# Altium schematic symbol library IC. Amplifier.SchLib: 15 symbols
Pins are listed as number, name and electrical type; pins without a type are passive.

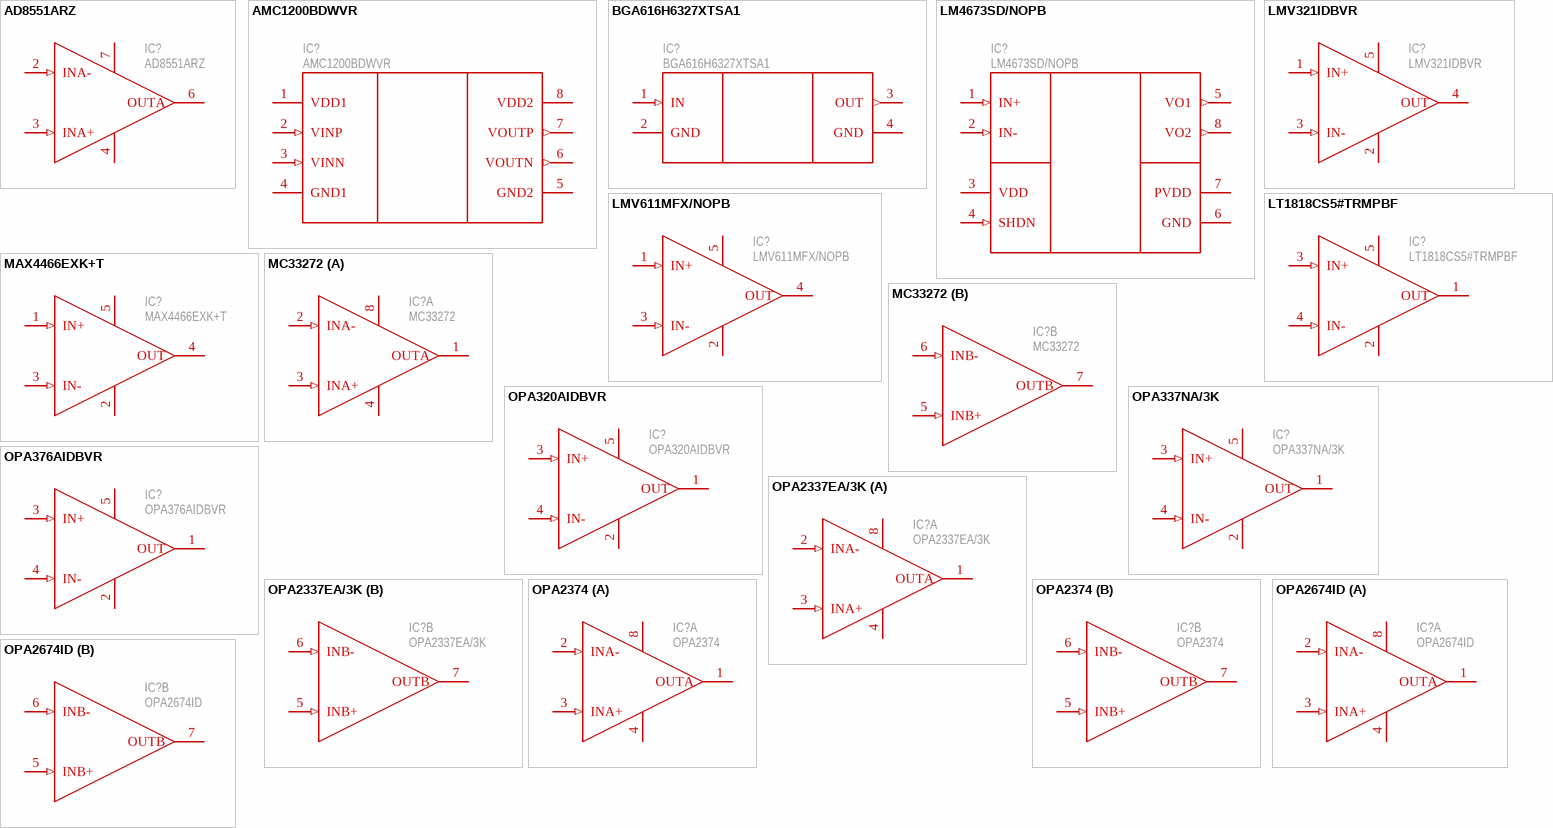
[diagram p0: symbols AD8551ARZ to OPA2674ID]

## AD8551ARZ
designator IC?  PartNumber: AD8551ARZ
OP amplifier; Manufacturer: Texas Instruments; ValueManufacturerPartNumber: IC op amplifier, Rail-to-Rail, 3 MHz, 2.7...5.5V, -40...+125°C, SOT23-5; Supply: 2.7...5.5V; OutputType: Rail-to-Rail; GainBandwidth: 3 MHz; HelpURL: https://www.digikey.com/product-detail/en/texas-instruments/OPA2337EA-3K/296-26252-1-ND/2254915; Package: SOT23-5; ComponentType: IC op amplifier; Temperature: -40...+125°C
footprint 8-SOIC (pitch 1.27 mm)
pins: 2 INA- (in), 3 INA+ (in), 4 V- (power), 6 OUTA (power), 7 V+ (power)

## AMC1200BDWVR
designator IC?  PartNumber: AMC1200BDWVR
Isolator amplifier; Manufacturer: Texas Instruments; ValueManufacturerPartNumber: IC isolator amplifier, Differential, 100 kHz, 2.7...5.5V, -40...+105°C, 8-SOIC; Supply: 2.7...5.5V; OutputType: Differential; GainBandwidth: 100 kHz; HelpURL: https://www.digikey.com/product-detail/en/texas-instruments/AMC1200BDWVR/296-39898-1-ND/5177775; Package: 8-SOIC; ComponentType: IC isolator amplifier; Temperature: -40...+105°C
footprint IC: AMC1200 (pitch 1.27 mm, isolator)
pins: 1 VDD1 (power), 2 VINP (in), 3 VINN (in), 4 GND1 (power), 5 GND2 (power), 6 VOUTN (out), 7 VOUTP (out), 8 VDD2 (power)

## BGA616H6327XTSA1
designator IC?  PartNumber: BGA616H6327XTSA1
RF amplifier; Manufacturer: Texas Instruments; ValueManufacturerPartNumber: IC RF amplifier, 2.7 GHz, 19dB, -40...+125°C, SOT23-5; Gain: 19dB; Frequency: 2.7 GHz; HelpURL: https://www.digikey.com/product-detail/en/infineon-technologies/BGA616H6327XTSA1/BGA616H6327XTSA1CT-ND/2410159; Package: SOT23-5; ComponentType: IC RF amplifier; Temperature: -40...+125°C
footprint SOT343
pins: 1 IN (in), 2 GND, 3 OUT (out), 4 GND

## LM4673SD/NOPB
designator IC?  PartNumber: LM4673SD/NOPB
Audio amplifier; Manufacturer: Texas Instruments; ValueManufacturerPartNumber: IC audio amplifier, Class D, 2.65W, 2.4...5.5V, -40...+85°C, 8-WSON; Supply: 2.4...5.5V; OutputType: Class D; OutputPower: 2.65W; HelpURL: https://www.digikey.com/product-detail/en/texas-instruments/LM4673SD-NOPB/LM4673SD-NOPBCT-ND/1207555; Package: 8-WSON; ComponentType: IC audio amplifier; Temperature: -40...+85°C
footprint 8-WSON (3x3) (3x3 mm, pitch 0.5 mm, power pad)
pins: 1 IN+ (in), 2 IN- (in), 3 VDD, 4 SHDN (in), 5 VO1 (out), 6 GND, 7 PVDD, 8 VO2 (out)

## LMV321IDBVR
designator IC?  PartNumber: LMV321IDBVR
OP amplifier; Manufacturer: Texas Instruments; ValueManufacturerPartNumber: IC op amplifier, Rail-to-Rail, 1 MHz, 2.7...5.5V, -40...+125°C, SOT23-5; Supply: 2.7...5.5V; OutputType: Rail-to-Rail; GainBandwidth: 1 MHz; HelpURL: https://www.digikey.com/product-detail/en/texas-instruments/LMV321IDBVR/296-9567-1-ND/379849; Package: SOT23-5; ComponentType: IC op amplifier; Temperature: -40...+125°C
footprint SOT23-5 (pitch 0.95 mm)
pins: 1 IN+ (in), 2 V- (power), 3 IN- (in), 4 OUT (power), 5 V+ (power)

## LMV611MFX/NOPB
designator IC?  PartNumber: LMV611MFX/NOPB
OP amplifier; Manufacturer: Texas Instruments; ValueManufacturerPartNumber: IC op amplifier, Rail-to-Rail, 1.5 MHz, 1.8...5.5V, -40...+125°C, SOT23-5; Supply: 1.8...5.5V; OutputType: Rail-to-Rail; GainBandwidth: 1.5 MHz; HelpURL: https://www.digikey.com/product-detail/en/texas-instruments/LMV611MFX-NOPB/296-47209-1-ND/7688219; Package: SOT23-5; ComponentType: IC op amplifier; Temperature: -40...+125°C
footprint SOT23-5 (pitch 0.95 mm)
pins: 1 IN+ (in), 2 V- (power), 3 IN- (in), 4 OUT (power), 5 V+ (power)

## LT1818CS5#TRMPBF
designator IC?  PartNumber: LT1818CS5#TRMPBF
OP amplifier; Manufacturer: Linear Technology; ValueManufacturerPartNumber: IC op amplifier, 2500V/µs, 400 MHz, 2.5...12.6V, -40...+125°C, SOT23-5; Supply: 2.5...12.6V; OutputType: 2500V/µs; GainBandwidth: 400 MHz; HelpURL: https://www.digikey.com/product-detail/en/linear-technology-analog-devices/LT1818CS5-TRMPBF/LT1818CS5-TRMPBFCT-ND/1754244; Package: SOT23-5; ComponentType: IC op amplifier; Temperature: -40...+125°C
footprint SOT23-5 (pitch 0.95 mm)
pins: 1 OUT (power), 2 V- (power), 3 IN+ (in), 4 IN- (in), 5 V+ (power)

## MAX4466EXK+T
designator IC?  PartNumber: MAX4466EXK+T
Microphone amplifier; Manufacturer: Maxim Integrated; ValueManufacturerPartNumber: IC microphone amplifier, Class AB, 20dB, 2.4...5.5V, -40...+85°C, SC70-5; Supply: 2.4...5.5V; OutputType: Class AB; Gain: 20dB; HelpURL: https://www.digikey.com/product-detail/en/maxim-integrated/MAX4466EXK-T/MAX4466EXK-CT-ND/5405773; Package: SC70-5; ComponentType: IC microphone amplifier; Temperature: -40...+85°C
footprint SC70-5 (pitch 0.95 mm)
pins: 1 IN+ (in), 2 V- (power), 3 IN- (in), 4 OUT (power), 5 V+ (power)

## MC33272
designator IC?  PartNumber: MC33272
OP amplifier; Manufacturer: Texas Instruments; ValueManufacturerPartNumber: IC op amplifier, Rail-to-Rail, 3 MHz, 2.7...5.5V, -40...+125°C, SOT23-5; Supply: 2.7...5.5V; OutputType: Rail-to-Rail; GainBandwidth: 3 MHz; HelpURL: https://www.digikey.com/product-detail/en/texas-instruments/OPA2337EA-3K/296-26252-1-ND/2254915; Package: SOT23-5; ComponentType: IC op amplifier; Temperature: -40...+125°C
footprint 8-SOIC (pitch 1.27 mm)
part A pins: 1 OUTA (power), 2 INA- (in), 3 INA+ (in), 4 V- (power), 8 V+ (power)
part B pins: 5 INB+ (in), 6 INB- (in), 7 OUTB (power)

## OPA320AIDBVR
designator IC?  PartNumber: OPA320AIDBVR
OP amplifier; Manufacturer: Texas Instruments; ValueManufacturerPartNumber: IC op amplifier, Rail-to-Rail, 20 MHz, 1.8...5.5V, -40...+125°C, SOT23-5; Supply: 1.8...5.5V; OutputType: Rail-to-Rail; GainBandwidth: 20 MHz; HelpURL: https://www.digikey.com/product-detail/en/texas-instruments/OPA320AIDBVR/296-29480-1-ND/2747411; Package: SOT23-5; ComponentType: IC op amplifier; Temperature: -40...+125°C
footprint SOT23-5 (pitch 0.95 mm)
pins: 1 OUT (power), 2 V- (power), 3 IN+ (in), 4 IN- (in), 5 V+ (power)

## OPA337NA/3K
designator IC?  PartNumber: OPA337NA/3K
OP amplifier; Manufacturer: Texas Instruments; ValueManufacturerPartNumber: IC op amplifier, Rail-to-Rail, 3 MHz, 2.7...5.5V, -40...+85°C, SOT23-5; Supply: 2.7...5.5V; OutputType: Rail-to-Rail; GainBandwidth: 3 MHz; HelpURL: https://www.digikey.com/product-detail/en/texas-instruments/OPA337NA-3K/296-39125-1-ND/5143139; Package: SOT23-5; ComponentType: IC op amplifier; Temperature: -40...+85°C
footprint SOT23-5 (pitch 0.95 mm)
pins: 1 OUT (power), 2 V- (power), 3 IN+ (in), 4 IN- (in), 5 V+ (power)

## OPA376AIDBVR
designator IC?  PartNumber: OPA376AIDBVR
OP amplifier; Manufacturer: Texas Instruments; ValueManufacturerPartNumber: IC op amplifier, Rail-to-Rail, 5.5 MHz, 2.2...5.5V, -40...+125°C, SOT23-5; Supply: 2.2...5.5V; OutputType: Rail-to-Rail; GainBandwidth: 5.5 MHz; HelpURL: https://www.digikey.com/product-detail/en/texas-instruments/OPA376AIDBVR/296-39130-1-ND/5143144; Package: SOT23-5; ComponentType: IC op amplifier; Temperature: -40...+125°C
footprint SOT23-5 (pitch 0.95 mm)
pins: 1 OUT (power), 2 V- (power), 3 IN+ (in), 4 IN- (in), 5 V+ (power)

## OPA2337EA/3K
designator IC?  PartNumber: OPA2337EA/3K
OP amplifier; Manufacturer: Texas Instruments; ValueManufacturerPartNumber: IC op amplifier, Rail-to-Rail, 3 MHz, 2.7...5.5V, -40...+125°C, SOT23-5; Supply: 2.7...5.5V; OutputType: Rail-to-Rail; GainBandwidth: 3 MHz; HelpURL: https://www.digikey.com/product-detail/en/texas-instruments/OPA2337EA-3K/296-26252-1-ND/2254915; Package: SOT23-5; ComponentType: IC op amplifier; Temperature: -40...+125°C
footprint SOT23-8 (pitch 0.95 mm)
part A pins: 1 OUTA (power), 2 INA- (in), 3 INA+ (in), 4 V- (power), 8 V+ (power)
part B pins: 5 INB+ (in), 6 INB- (in), 7 OUTB (power)

## OPA2374
designator IC?  PartNumber: OPA2374
OP amplifier; Manufacturer: Texas Instruments; ValueManufacturerPartNumber: IC op amplifier, Rail-to-Rail, 3 MHz, 2.7...5.5V, -40...+125°C, SOT23-5; Supply: 2.7...5.5V; OutputType: Rail-to-Rail; GainBandwidth: 3 MHz; HelpURL: https://www.digikey.com/product-detail/en/texas-instruments/OPA2337EA-3K/296-26252-1-ND/2254915; Package: SOT23-5; ComponentType: IC op amplifier; Temperature: -40...+125°C
footprint 8-SOIC (pitch 1.27 mm)
part A pins: 1 OUTA (power), 2 INA- (in), 3 INA+ (in), 4 V- (power), 8 V+ (power)
part B pins: 5 INB+ (in), 6 INB- (in), 7 OUTB (power)

## OPA2674ID
designator IC?  PartNumber: OPA2674ID
OP amplifier; Manufacturer: Texas Instruments; ValueManufacturerPartNumber: IC op amplifier, Rail-to-Rail, 3 MHz, 2.7...5.5V, -40...+125°C, SOT23-5; Supply: 2.7...5.5V; OutputType: Rail-to-Rail; GainBandwidth: 3 MHz; HelpURL: https://www.digikey.com/product-detail/en/texas-instruments/OPA2337EA-3K/296-26252-1-ND/2254915; Package: SOT23-5; ComponentType: IC op amplifier; Temperature: -40...+125°C
footprint 8-SOIC (pitch 1.27 mm)
part A pins: 1 OUTA (power), 2 INA- (in), 3 INA+ (in), 4 V- (power), 8 V+ (power)
part B pins: 5 INB+ (in), 6 INB- (in), 7 OUTB (power)